# EAGLE library part SILICONLABS-SI1133 (library FaBo-Environment)
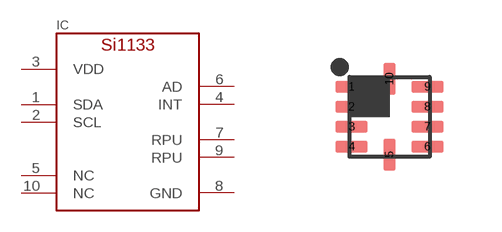
[diagram p13: symbol with the pads of SILICONLABS-SI1133; footprint SILICONLABS-SI1133]

Designator prefix IC

## SILICONLABS-SI1133  [SILICONLABS-SI1133]
1  SDA
2  SCL
3  VDD
4  INT
5  NC
6  AD
7  RPU
8  GND
9  RPU
10  NC

## Footprint SILICONLABS-SI1133 (pad centres in mm)
smd 0.8 x 0.3: 1 -0.95,0.75; 2 -0.95,0.25; 3 -0.95,-0.25; 4 -0.95,-0.75; 6 0.95,-0.75; 7 0.95,-0.25; 8 0.95,0.25; 9 0.95,0.75
smd 0.3 x 0.8: 5 0,-0.95; 10 0,0.95